# EAGLE library part IC_TI_OPA322S (library PCB_KioskMB_r3.3-05)
TI OPA322S opamp with shutdown
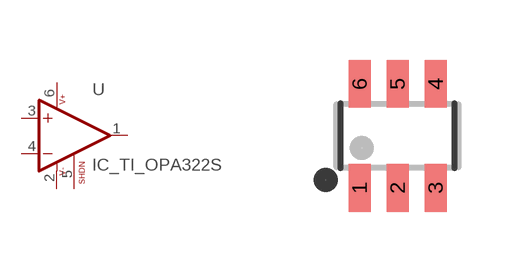
[diagram p0: symbol with the pads of SOT23-6; footprint SOT23-6]

Designator prefix U

## IC_TI_OPA322SDBV, IC_TI_OPA322SAIDBV (MANUFACTURER: TI; MFR_PN: TPA322SAIDBV)  [SOT23-6]
1  OUT  out
2  V-  pwr
3  +IN  in
4  -IN  in
5  !SHDN  pwr
6  V+  pwr

## Footprint SOT23-6 (pad centres in mm)
smd 0.55 x 1.2: 1 -0.95,-1.3; 2 0,-1.3; 3 0.95,-1.3; 4 0.95,1.3; 5 0,1.3; 6 -0.95,1.3